# Altium footprint library IR.PcbLib: 3 footprints
Each footprint in its own frame and in the unit in brackets; x right, y up, seen from the top. Pads: shape width x height; smd on the part's side, far side on the other; paste and mask are expansions set on the pad; w line width, h text height; cw(c..) or ccw(c..) is an arc to the next point about the centre after c.
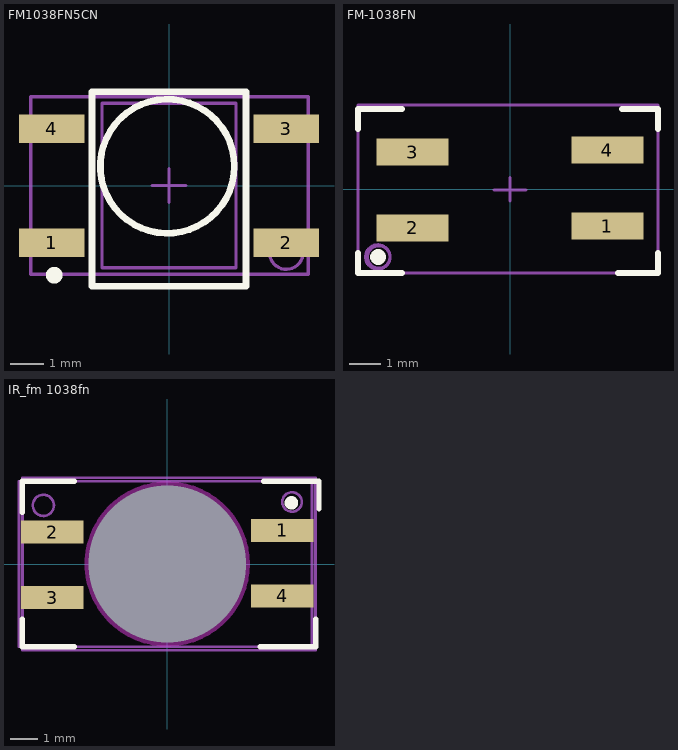
[diagram p0: the footprints below, top view; thin cyan lines are the x and y axes]

## FM1038FN5CN [mm] "FM1038FN5CN"
height 2.9
pads (4):
  rect 1.95x0.85 smd: 1(-3.5,-1.7) 2(3.5,-1.7) 3(3.5,1.7) 4(-3.5,1.7)
Top Overlay:
  circle w0.2: c-0.05,0.575 r2
  circle w0.25: c-3.425,-2.675 r0.125
  lines w0.2: -2.3,-3 2.3,-3 2.3,2.794 -2.3,2.794 -2.3,-3
Mechanical 13:
  lines w0.1: -0.5,0 0.5,0 ; 0,-0.5 0,0.5 ; -2,-2.45 2,-2.45 2,2.45 -2,2.45 -2,-2.45
Mechanical 15:
  circle w0.1: c3.5,-2 r0.5
  lines w0.1: -4.125,-2.65 4.15,-2.65 4.15,2.65 -4.125,2.65 -4.125,-2.65
  text ".Designator" at 0.2,-2.125 h0.5

## FM-1038FN [mm]
height 2.52
pads (4):
  rect 2.3x0.85 smd: 1(3.095,-1.175) 2(-3.095,-1.238) 3(-3.095,1.172) 4(3.095,1.238)
Top Overlay:
  circle w0.25: c-4.189,-2.159 r0.125
  lines w0.2: -4.826,-2.032 -4.826,-2.667 -3.429,-2.667 ; -4.826,1.905 -4.826,2.54 -3.429,2.54 ; 3.429,-2.667 4.699,-2.667 4.699,-2.032 ; 3.556,2.54 4.699,2.54 4.699,1.905
Mechanical 13:
  circle w0.1: c-4.199,-2.159 r0.389
  lines w0.1: -0.502,-0.032 0.498,-0.032 ; -0.002,-0.381 -0.002,0.365 ; -4.826,-2.667 4.699,-2.667 4.699,2.667 -4.826,2.667 -4.826,-2.667
Mechanical 15:
  circle w0.1: c-4.169,-2.159 r0.359
  lines w0.1: -4.826,-2.667 4.699,-2.667 4.699,2.667 -4.826,2.667 -4.826,-2.667
  text ".Designator" at 0,-0.127 h1.52
3D body: height 2.52, standoff 0.25, extent -2.794,-2.457 2.733,2.393

## IR_fm 1038fn [mm]
height 2.52
pads (5):
  rect 0x0 hole 5.8 unplated: 0(-0.002,0)
  rect 2.3x0.85 smd: 1(4.23,1.238) 2(-4.23,1.172) 3(-4.23,-1.238) 4(4.23,-1.175)
Top Overlay:
  circle w0.25: c4.572,2.254 r0.125
  lines w0.2: -5.334,-2.032 -5.334,-3.048 -3.429,-3.048 ; -5.334,1.905 -5.334,3.048 -3.429,3.048 ; 3.429,-3.048 5.461,-3.048 5.461,-2.032 ; 3.556,3.048 5.588,3.048 5.588,2.032
Mechanical 13:
  circle w0.1: c-4.564,2.159 r0.389
  lines w0.1: -0.502,-0.032 0.498,-0.032 ; -0.002,-0.381 -0.002,0.365 ; -5.461,-3.048 5.334,-3.048 5.334,3.048 -5.461,3.048 -5.461,-3.048
Mechanical 15:
  circle w0.1: c4.594,2.286 r0.359
  lines w0.1: -5.336,-3.175 5.459,-3.175 5.459,3.175 -5.336,3.175 -5.336,-3.175
Multi-Layer keep-out:
  circle w0.5: c-0.002,0 r2.794
3D body: height 2.52, standoff 0.25, extent -2.794,-2.457 2.733,2.393